# Altium footprint library ICS.PcbLib: 18 footprints (part 1 of 2)
Each footprint in its own frame and in the unit in brackets; x right, y up, seen from the top. Pads: shape width x height; smd on the part's side, far side on the other; paste and mask are expansions set on the pad; w line width, h text height; cw(c..) or ccw(c..) is an arc to the next point about the centre after c.
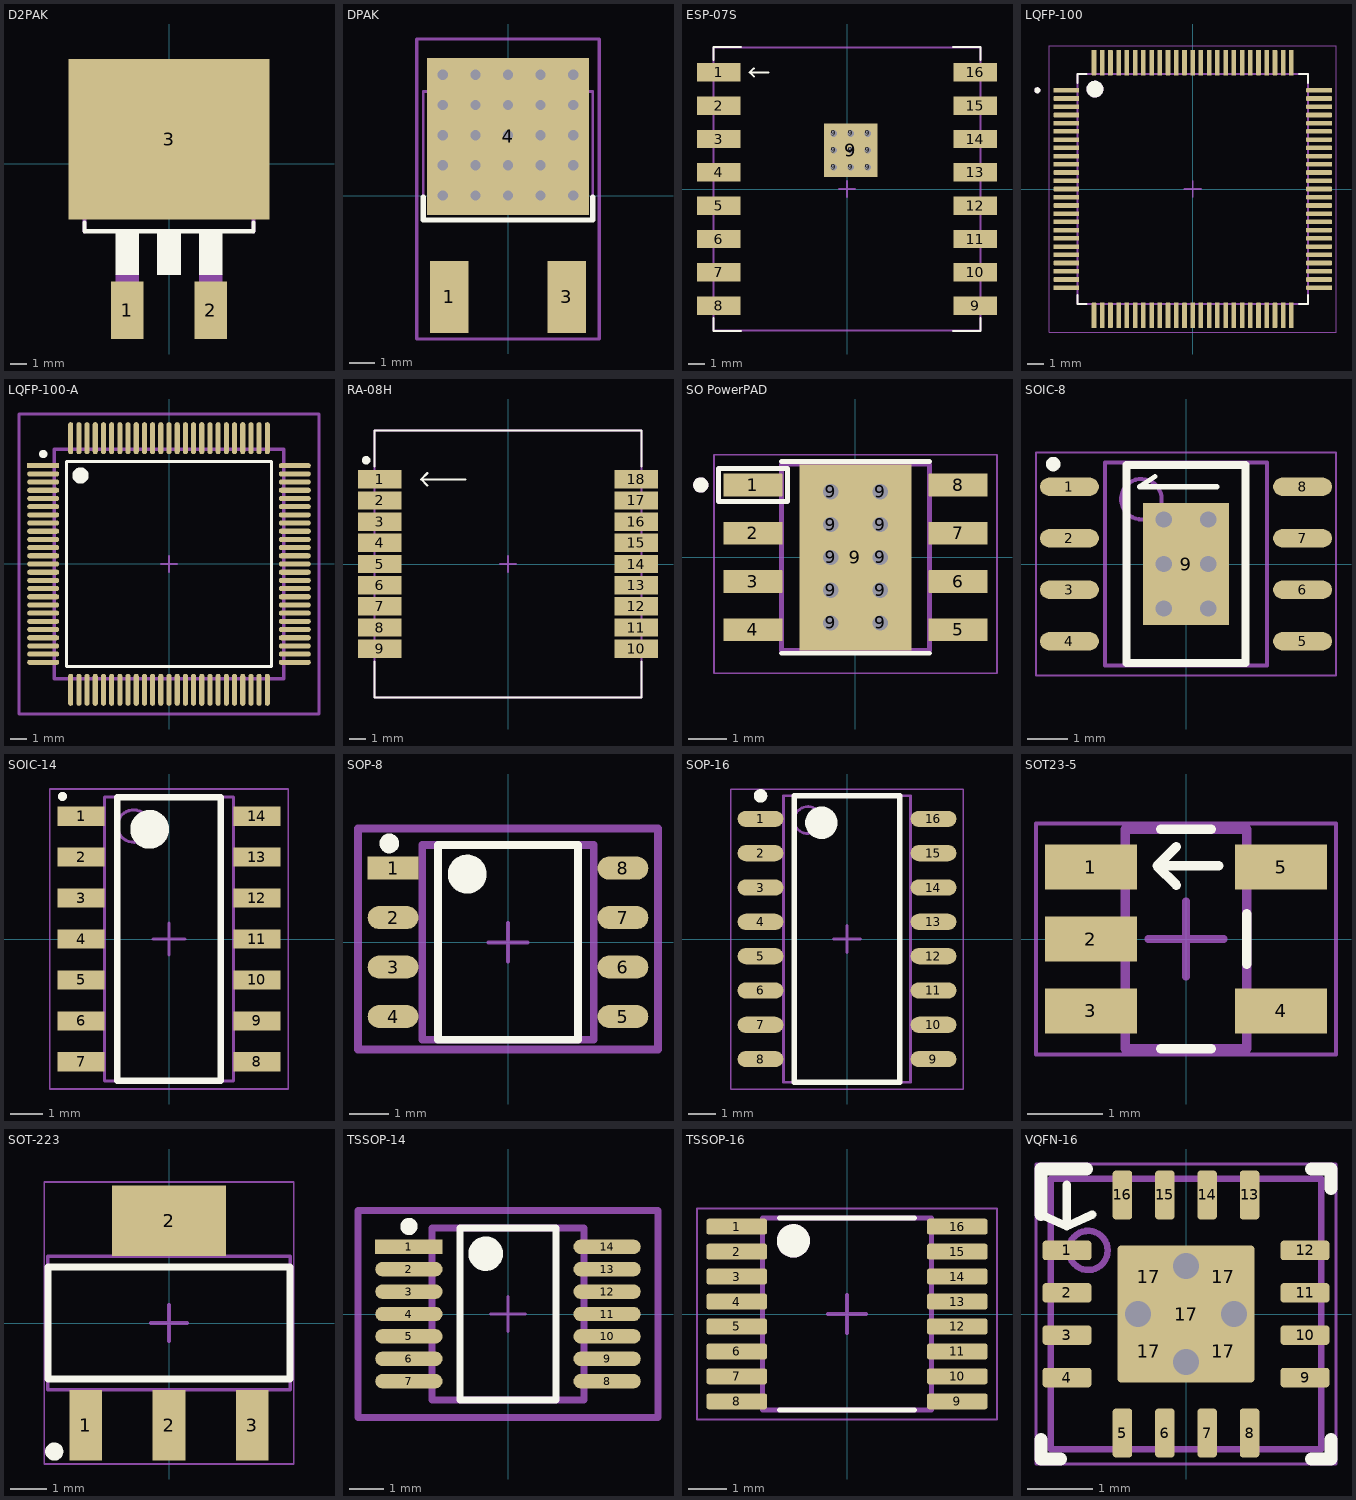
[diagram p0: the footprints below, top view; thin cyan lines are the x and y axes]

## D2PAK [mm]
pads (3):
  rect 2x3.5 smd: 1(-2.54,-8.89) 2(2.54,-8.89)
  rect 12.2x9.75 smd: 3(0,1.5)
Top Overlay:
  region: 0.711,-6.731 -0.711,-6.731 -0.711,-4.242 0.711,-4.242
  region: 3.251,-6.731 1.829,-6.731 1.829,-4.242 3.251,-4.242
  region: -1.829,-6.731 -3.251,-6.731 -3.251,-4.242 -1.829,-4.242
  lines w0.254: -5.131,-3.556 -5.131,-4.089 5.131,-4.089 5.131,-3.556
Top Courtyard:
  lines w0.1: -0.5,0 0.5,0 ; 0,-0.5 0,0.5
Mechanical 13:
  region: 3.251,-8.153 1.829,-8.153 1.829,-6.731 3.251,-6.731
  region: 3.099,-9.525 1.981,-9.525 1.981,-8.103 3.099,-8.103
  region: -1.829,-8.153 -3.251,-8.153 -3.251,-6.731 -1.829,-6.731
  region: -1.981,-9.525 -3.099,-9.525 -3.099,-8.103 -1.981,-8.103
  lines w0.254: -5.131,-4.089 -5.131,4.445 ; 5.131,-4.089 5.131,4.445 ; -5.131,4.445 5.131,4.445 ; -5.131,4.445 -5.131,4.699 -3.378,5.817 3.124,5.817 5.131,4.445
3D body "step_temp.STEP": height 4.6, standoff -0.23, extent -5.1,-9.617 5.1,5.807

## DPAK [mm]
pads (3):
  rect 1.5x2.8 smd: 1(-2.286,-3.95) 3(2.286,-3.95)
  rect 6.3x6.1 smd: 4(0,2.3)
via -1.27,4.699 diameter 0.6 hole 0.4
via 0,4.699 diameter 0.6 hole 0.4
via 1.27,4.699 diameter 0.6 hole 0.4
via 2.54,4.699 diameter 0.6 hole 0.4
via -2.54,4.699 diameter 0.6 hole 0.4
via 2.54,0 diameter 0.6 hole 0.4
via 1.27,0 diameter 0.6 hole 0.4
via -1.27,0 diameter 0.6 hole 0.4
via 2.54,1.175 diameter 0.6 hole 0.4
via 1.27,1.175 diameter 0.6 hole 0.4
via -1.27,1.175 diameter 0.6 hole 0.4
via 2.54,2.349 diameter 0.6 hole 0.4
via 1.27,2.349 diameter 0.6 hole 0.4
via -1.27,2.349 diameter 0.6 hole 0.4
via -2.54,2.349 diameter 0.6 hole 0.4
via 2.54,3.524 diameter 0.6 hole 0.4
via 1.27,3.524 diameter 0.6 hole 0.4
via -1.27,3.524 diameter 0.6 hole 0.4
via -2.54,3.524 diameter 0.6 hole 0.4
via 0,3.524 diameter 0.6 hole 0.4
via 0,2.349 diameter 0.6 hole 0.4
via 0,0 diameter 0.6 hole 0.4
via 0,1.175 diameter 0.6 hole 0.4
via -2.54,0 diameter 0.6 hole 0.4
via -2.54,1.175 diameter 0.6 hole 0.4
Top Overlay:
  lines w0.2: -3.3,-0.056 -3.3,-0.956 3.3,-0.956 3.3,-0.056
Top Courtyard:
  lines w0.1: -0.5,0 0.5,0 ; 0,-0.5 0,0.5
Top Assembly:
  lines w0.1: -3.3,-0.965 -3.3,4.05 3.3,4.05 3.3,-0.965 -3.3,-0.965
Mechanical 15:
  lines w0.127: -3.556,-5.588 3.556,-5.588 3.556,6.096 -3.556,6.096 -3.556,-5.588
3D body "DPAK228P972X240-3N.step": height 2.4, standoff 0, extent -3.3,-3.775 3.3,5.95

## ESP-07S [mm]
height 3.2
pads (26):
  rect 2.6x1.1 smd: 1(-7.7,7) 2(-7.7,5) 3(-7.7,3) 4(-7.7,1) 5(-7.7,-1) 6(-7.7,-3) 7(-7.7,-5) 8(-7.7,-7) 9(7.7,-7) 10(7.7,-5) 11(7.7,-3) 12(7.7,-1) 13(7.7,1) 14(7.7,3) 15(7.7,5) 16(7.7,7)
  round 0.6 hole 0.4: 9(-0.796,1.301) 9(-0.796,2.317) 9(-0.796,3.333) 9(0.22,1.301) 9(0.22,2.317) 9(0.22,3.333) 9(1.236,1.301) 9(1.236,2.317) 9(1.236,3.333)
  rect 3.2x3.2 smd: 9(0.22,2.317)
Top Overlay:
  lines w0.127: -8.001,-7.747 -8.001,-8.509 -6.35,-8.509 ; -8.001,7.747 -8.001,8.509 -6.35,8.509 ; -5.588,6.761 -5.842,7 ; -5.588,7.239 -5.842,7 ; -4.699,7 -5.842,7 ; 6.35,-8.509 8.001,-8.509 8.001,-7.747 ; 6.35,8.509 8.001,8.509 8.001,7.747
Top 3D Body:
  lines w0.127: -8,-8.5 -8,8.5 8,8.5 8,-8.5 -8,-8.5
Top Component Center:
  lines w0.1: -0.5,0 0.5,0 ; 0,-0.5 0,0.5
Mechanical 15:
  lines w0.127: -8,-8.5 8,-8.5 8,8.5 -8,8.5 -8,-8.5
3D body "esp-07s.SLDPRT": height 3.28, standoff 0, extent -8.001,-8.509 7.999,8.491

## LQFP-100 [mm]
pads (100):
  rrect25% 1.56x0.28 smd: 1(-7.68,6) 2(-7.68,5.5) 3(-7.68,5) 4(-7.68,4.5) 5(-7.68,4) 6(-7.68,3.5) 7(-7.68,3) 8(-7.68,2.5) 9(-7.68,2) 10(-7.68,1.5) 11(-7.68,1) 12(-7.68,0.5) 13(-7.68,0) 14(-7.68,-0.5) 15(-7.68,-1) 16(-7.68,-1.5) 17(-7.68,-2) 18(-7.68,-2.5) 19(-7.68,-3) 20(-7.68,-3.5) 21(-7.68,-4) 22(-7.68,-4.5) 23(-7.68,-5) 24(-7.68,-5.5) 25(-7.68,-6) 51(7.68,-6) 52(7.68,-5.5) 53(7.68,-5) 54(7.68,-4.5) 55(7.68,-4) 56(7.68,-3.5) 57(7.68,-3) 58(7.68,-2.5) 59(7.68,-2) 60(7.68,-1.5) 61(7.68,-1) 62(7.68,-0.5) 63(7.68,0) 64(7.68,0.5) 65(7.68,1) 66(7.68,1.5) 67(7.68,2) 68(7.68,2.5) 69(7.68,3) 70(7.68,3.5) 71(7.68,4) 72(7.68,4.5) 73(7.68,5) 74(7.68,5.5) 75(7.68,6)
  rrect25% 0.28x1.56 smd: 26(-6,-7.68) 27(-5.5,-7.68) 28(-5,-7.68) 29(-4.5,-7.68) 30(-4,-7.68) 31(-3.5,-7.68) 32(-3,-7.68) 33(-2.5,-7.68) 34(-2,-7.68) 35(-1.5,-7.68) 36(-1,-7.68) 37(-0.5,-7.68) 38(0,-7.68) 39(0.5,-7.68) 40(1,-7.68) 41(1.5,-7.68) 42(2,-7.68) 43(2.5,-7.68) 44(3,-7.68) 45(3.5,-7.68) 46(4,-7.68) 47(4.5,-7.68) 48(5,-7.68) 49(5.5,-7.68) 50(6,-7.68) 76(6,7.68) 77(5.5,7.68) 78(5,7.68) 79(4.5,7.68) 80(4,7.68) 81(3.5,7.68) 82(3,7.68) 83(2.5,7.68) 84(2,7.68) 85(1.5,7.68) 86(1,7.68) 87(0.5,7.68) 88(0,7.68) 89(-0.5,7.68) 90(-1,7.68) 91(-1.5,7.68) 92(-2,7.68) 93(-2.5,7.68) 94(-3,7.68) 95(-3.5,7.68) 96(-4,7.68) 97(-4.5,7.68) 98(-5,7.68) 99(-5.5,7.68) 100(-6,7.68)
Top Overlay:
  circle w0.508: c-5.942,6.071 r0.256
  circle w0.2: c-9.44,6 r0.085
  lines w0.127: -7,-6.46 -7,-7 -6.46,-7 ; -7,6.46 -7,7 -6.46,7 ; 6.46,-7 7,-7 7,-6.46 ; 6.46,7 7,7 7,6.46
Top Courtyard:
  lines w0.1: -0.5,0 0.5,0 ; 0,-0.5 0,0.5
Mechanical 13:
  circle w0.508: c-5.942,6.071 r0.256
  circle w0.2: c-9.44,6 r0.085
  lines w0.127: -7,-7 7,-7 7,7 -7,7 -7,-7
Mechanical 15:
  lines w0.05: -8.71,-8.71 8.71,-8.71 8.71,8.71 -8.71,8.71 -8.71,-8.71
3D body "STM32H743VIT6.STEP": height 1.56, standoff -0.04, extent -8,-8 8,8

## LQFP-100-A [mm]
pads (100):
  rect 1.955x0.312 smd paste+0 mask+0: 1(-7.675,6)
  rrect100% 1.955x0.312 smd paste+0 mask+0: 2(-7.675,5.5) 3(-7.675,5) 4(-7.675,4.5) 5(-7.675,4) 6(-7.675,3.5) 7(-7.675,3) 8(-7.675,2.5) 9(-7.675,2) 10(-7.675,1.5) 11(-7.675,1) 12(-7.675,0.5) 13(-7.675,0) 14(-7.675,-0.5) 15(-7.675,-1) 16(-7.675,-1.5) 17(-7.675,-2) 18(-7.675,-2.5) 19(-7.675,-3) 20(-7.675,-3.5) 21(-7.675,-4) 22(-7.675,-4.5) 23(-7.675,-5) 24(-7.675,-5.5) 25(-7.675,-6) 51(7.675,-6) 52(7.675,-5.5) 53(7.675,-5) 54(7.675,-4.5) 55(7.675,-4) 56(7.675,-3.5) 57(7.675,-3) 58(7.675,-2.5) 59(7.675,-2) 60(7.675,-1.5) 61(7.675,-1) 62(7.675,-0.5) 63(7.675,0) 64(7.675,0.5) 65(7.675,1) 66(7.675,1.5) 67(7.675,2) 68(7.675,2.5) 69(7.675,3) 70(7.675,3.5) 71(7.675,4) 72(7.675,4.5) 73(7.675,5) 74(7.675,5.5) 75(7.675,6)
  rrect100% 0.312x1.955 smd paste+0 mask+0: 26(-6,-7.675) 27(-5.5,-7.675) 28(-5,-7.675) 29(-4.5,-7.675) 30(-4,-7.675) 31(-3.5,-7.675) 32(-3,-7.675) 33(-2.5,-7.675) 34(-2,-7.675) 35(-1.5,-7.675) 36(-1,-7.675) 37(-0.5,-7.675) 38(0,-7.675) 39(0.5,-7.675) 40(1,-7.675) 41(1.5,-7.675) 42(2,-7.675) 43(2.5,-7.675) 44(3,-7.675) 45(3.5,-7.675) 46(4,-7.675) 47(4.5,-7.675) 48(5,-7.675) 49(5.5,-7.675) 50(6,-7.675) 76(6,7.675) 77(5.5,7.675) 78(5,7.675) 79(4.5,7.675) 80(4,7.675) 81(3.5,7.675) 82(3,7.675) 83(2.5,7.675) 84(2,7.675) 85(1.5,7.675) 86(1,7.675) 87(0.5,7.675) 88(0,7.675) 89(-0.5,7.675) 90(-1,7.675) 91(-1.5,7.675) 92(-2,7.675) 93(-2.5,7.675) 94(-3,7.675) 95(-3.5,7.675) 96(-4,7.675) 97(-4.5,7.675) 98(-5,7.675) 99(-5.5,7.675) 100(-6,7.675)
Top Overlay:
  circle w0.5: c-5.4,5.4 r0.25
  circle w0.25: c-7.675,6.71 r0.125
  lines w0.2: -6.25,-6.25 -6.25,6.25 6.25,6.25 6.25,-6.25 -6.25,-6.25
Top 3D Body:
  lines w0.2: -7,-7 -7,7 7,7 7,-7 -7,-7
Top Courtyard:
  lines w0.2: -9.153,-9.153 -9.153,9.153 9.153,9.153 9.153,-9.153 -9.153,-9.153
Top Component Center:
  lines w0.1: -0.5,0 0.5,0 ; 0,-0.5 0,0.5
Top Assembly:
  lines w0.2: -9.153,-9.153 -9.153,9.153 9.153,9.153 9.153,-9.153 -9.153,-9.153
  text ".Designator" at 0,-0.001 h1
3D body "IC_STMicroelectronics_STM32H743VIT6_eec.STEP": height 0.25, standoff 0, extent -9.153,-9.153 9.153,9.153

## RA-08H [mm]
pads (18):
  rect 2.6x1.1 smd mask+0.05: 1(-7.7,5.08) 2(-7.7,3.81) 3(-7.7,2.54) 4(-7.7,1.27) 5(-7.7,0) 6(-7.7,-1.27) 7(-7.7,-2.54) 8(-7.7,-3.81) 9(-7.7,-5.08) 10(7.7,-5.08) 11(7.7,-3.81) 12(7.7,-2.54) 13(7.7,-1.27) 14(7.7,0) 15(7.7,1.27) 16(7.7,2.54) 17(7.7,3.81) 18(7.7,5.08)
Top Overlay:
  circle w0.254: c-8.509,6.223 r0.127
  lines w0.127: -8.001,-5.842 -8.001,-8.001 8.001,-8.001 8.001,-5.842 ; -8.001,5.842 -8.001,8.001 8.001,8.001 8.001,5.842 ; -4.826,4.699 -5.207,5.08 ; -4.826,5.461 -5.207,5.08 ; -2.54,5.08 -5.207,5.08
Top 3D Body:
  lines w0.127: -8,-8 -8,8 8,8 8,-8 -8,-8
Top Component Center:
  lines w0.1: -0.5,0 0.5,0 ; 0,-0.5 0,0.5
Mechanical 15:
  lines w0.127: -8,-8 8,-8 8,8 -8,8 -8,-8
3D body: height 3.03, standoff 0, extent -8,-8 8,8

## SO PowerPAD [mm]
pads (19):
  rrect5% 1.55x0.6 smd mask+0: 1(-2.7,1.905) 2(-2.7,0.635) 3(-2.7,-0.635) 4(-2.7,-1.905) 5(2.7,-1.905) 6(2.7,-0.635) 7(2.7,0.635) 8(2.7,1.905)
  round 0.6 hole 0.4 paste+0: 9(-0.65,-1.726) 9(-0.65,-0.863) 9(-0.65,0) 9(-0.65,0.863) 9(-0.65,1.726) 9(0.65,-1.726) 9(0.65,-0.863) 9(0.65,0) 9(0.65,0.863) 9(0.65,1.726)
  rect 2.95x4.9 smd: 9(0,0)
Top Overlay:
  circle w0.2: c-4.07,1.905 r0.1
  lines w0.127: -1.95,-2.525 1.95,-2.525 ; -1.95,2.525 1.95,2.525 ; -3.607,1.473 -3.607,2.337 -1.791,2.337 -1.791,1.473 -3.607,1.473
Top Paste:
  region: 1.355,-1.7 -1.355,-1.7 -1.355,1.7 1.355,1.7
Top Solder:
  drawing of 9 lines, arcs and shapes, not listed
Top Courtyard:
  lines w0.1: -0.5,0 0.5,0 ; 0,-0.5 0,0.5
Mechanical 13:
  circle w0.2: c-4.07,1.905 r0.1
  lines w0.127: -1.95,-2.45 1.95,-2.45 1.95,2.45 -1.95,2.45 -1.95,-2.45
Mechanical 15:
  lines w0.05: -3.725,-3.048 3.725,-3.048 3.725,2.7 -3.725,2.7 -3.725,-3.048
3D body "TPS5430DDA.STEP": height 1.7, standoff 0, extent -3,-2.45 3,2.45

## SOIC-8 [mm] "SOIC, 8-Leads, Body 4.90x3.90mm, Pitch 1.27mm, Thermal Pad 3.00x2.13mm, IPC Medium Density"
height 1.7
pads (9):
  oval 1.45x0.45 smd: 1(-2.875,1.905) 2(-2.875,0.635) 3(-2.875,-0.635) 4(-2.875,-1.905) 5(2.875,-1.905) 6(2.875,-0.635) 7(2.875,0.635) 8(2.875,1.905)
  rect 2.13x3 smd: 9(0,0)
via -0.55,1.1 diameter 0.6 hole 0.4
via 0.55,1.1 diameter 0.6 hole 0.4
via -0.55,0 diameter 0.6 hole 0.4
via 0.55,0 diameter 0.6 hole 0.4
via -0.55,-1.1 diameter 0.6 hole 0.4
via 0.55,-1.1 diameter 0.6 hole 0.4
Top Overlay:
  circle w0.254: c-3.277,2.464 r0.051
  lines w0.127: -0.762,2.159 -1.143,1.905 0.762,1.905
  lines w0.2: -1.47,-2.445 -1.47,2.445 1.47,2.445 1.47,-2.445 -1.47,-2.445
Top Courtyard:
  lines w0.05: -3.7,-2.75 -3.7,2.75 3.7,2.75 3.7,-2.75 -3.7,-2.75
  lines w0.1: -0.5,0 0.5,0 ; 0,-0.5 0,0.5
Top Assembly:
  circle w0.1: c-1.1,1.6 r0.5
  lines w0.1: -2,-2.5 -2,2.5 2,2.5 2,-2.5 -2,-2.5
3D body "SOIC127P600X170_HS-9N.step": height 1.7, standoff 0, extent -3,-2.5 3,2.5

## SOIC-14 [mm] "SOIC, 14-Leads, Body 8.65x3.90mm, Pitch 1.27mm, IPC Medium Density"
height 1.75
pads (14):
  rect 1.45x0.6 smd: 1(-2.725,3.81) 2(-2.725,2.54) 3(-2.725,1.27) 4(-2.725,0) 5(-2.725,-1.27) 6(-2.725,-2.54) 7(-2.725,-3.81) 8(2.725,-3.81) 9(2.725,-2.54) 10(2.725,-1.27) 11(2.725,0) 12(2.725,1.27) 13(2.725,2.54) 14(2.725,3.81)
Top Overlay:
  circle w0.25: c-3.302,4.42 r0.014
  circle w0.6: c-0.6,3.4 r0.3
  lines w0.2: -1.6,-4.4 -1.6,4.4 1.6,4.4 1.6,-4.4 -1.6,-4.4
Top Courtyard:
  lines w0.05: -3.7,-4.65 -3.7,4.65 3.7,4.65 3.7,-4.65 -3.7,-4.65
  lines w0.1: -0.5,0 0.5,0 ; 0,-0.5 0,0.5
Top Assembly:
  circle w0.1: c-1.1,3.5 r0.5
  lines w0.1: -2,-4.4 -2,4.4 2,4.4 2,-4.4 -2,-4.4
3D body "SOIC127P600X175-14N.step": height 1.75, standoff 0, extent -3,-4.4 3,4.4

## SOP-8 [mm]
pads (8):
  rect 1.304x0.592 smd paste+0 mask+0: 1(-2.95,1.905)
  rrect100% 1.304x0.592 smd paste+0 mask+0: 2(-2.95,0.635) 3(-2.95,-0.635) 4(-2.95,-1.905) 5(2.95,-1.905) 6(2.95,-0.635) 7(2.95,0.635) 8(2.95,1.905)
Top Overlay:
  circle w0.5: c-1.048,1.75 r0.25
  circle w0.254: c-3.048,2.54 r0.127
  lines w0.2: -1.798,-2.5 -1.798,2.5 1.798,2.5 1.798,-2.5 -1.798,-2.5
Top 3D Body:
  lines w0.2: -2.2,-2.5 -2.2,2.5 2.2,2.5 2.2,-2.5 -2.2,-2.5
Top Courtyard:
  lines w0.2: -3.852,-2.75 -3.852,2.921 3.852,2.921 3.852,-2.75 -3.852,-2.75
Top Component Center:
  lines w0.1: -0.5,0 0.5,0 ; 0,-0.5 0,0.5
Top Assembly:
  lines w0.2: -3.852,-2.75 -3.852,2.921 3.852,2.921 3.852,-2.75 -3.852,-2.75
  text ".Designator" at 0,0.188 h1
3D body "IC_Rohm_BD6231F-E2_eec.STEP": height 0.25, standoff 0, extent -3.852,-2.75 3.852,2.75

## SOP-16 [mm] "SOP, 16-Leads, Body 10.30x4.40mm, Pitch 1.27mm, IPC Medium Density"
height 2.1
pads (16):
  oval 1.7x0.6 smd: 1(-3.2,4.445) 2(-3.2,3.175) 3(-3.2,1.905) 4(-3.2,0.635) 5(-3.2,-0.635) 6(-3.2,-1.905) 7(-3.2,-3.175) 8(-3.2,-4.445) 9(3.2,-4.445) 10(3.2,-3.175) 11(3.2,-1.905) 12(3.2,-0.635) 13(3.2,0.635) 14(3.2,1.905) 15(3.2,3.175) 16(3.2,4.445)
Top Overlay:
  circle w0.25: c-3.2,5.295 r0.125
  circle w0.6: c-0.95,4.3 r0.3
  lines w0.2: -1.95,-5.3 -1.95,5.3 1.95,5.3 1.95,-5.3 -1.95,-5.3
Top Courtyard:
  lines w0.05: -4.3,-5.55 -4.3,5.55 4.3,5.55 4.3,-5.55 -4.3,-5.55
  lines w0.1: -0.5,0 0.5,0 ; 0,-0.5 0,0.5
Top Assembly:
  circle w0.1: c-1.45,4.4 r0.5
  lines w0.1: -2.35,-5.3 -2.35,5.3 2.35,5.3 2.35,-5.3 -2.35,-5.3
3D body "SOP127P700X210-16N.step": height 2.1, standoff 0, extent -3.5,-5.3 3.5,5.3

## SOT23-5 [mm]
pads (5):
  rect 1.21x0.59 smd: 1(-1.255,0.95) 2(-1.255,0) 3(-1.255,-0.95) 4(1.255,-0.95) 5(1.255,0.95)
Top Overlay:
  lines w0.127: -0.33,-1.45 0.33,-1.45 ; -0.33,1.45 0.33,1.45 ; -0.127,0.711 -0.381,0.965 ; -0.127,1.219 -0.381,0.965 ; 0.432,0.965 -0.381,0.965 ; 0.8,-0.335 0.8,0.335
Top Courtyard:
  lines w0.1: -0.5,0 0.5,0 ; 0,-0.5 0,0.5
Mechanical 13:
  lines w0.127: -0.8,-1.45 -0.8,1.45 0.8,1.45 0.8,-1.45 -0.8,-1.45
Mechanical 15:
  lines w0.05: -1.981,-1.524 1.981,-1.524 1.981,1.524 -1.981,1.524 -1.981,-1.524
3D body "OPA333AIDBVT.STEP": height 1.45, standoff 0, extent -1.4,-1.45 1.4,1.45

## SOT-223 [mm] "SOT223, 4-Leads, Body 6.50x7.00mm (avg), Pitch 2.30mm, IPC High Density"
height 1.8
pads (4):
  rect 0.9x1.95 smd: 1(-2.3,-2.825) 2(0,-2.825) 3(2.3,-2.825)
  rect 3.15x1.95 smd: 2(0,2.825)
Top Overlay:
  circle w0.25: c-3.175,-3.556 r0.125
  lines w0.2: -3.35,-1.55 -3.35,1.55 3.35,1.55 3.35,-1.55 -3.35,-1.55
Top Courtyard:
  lines w0.05: -3.45,-3.9 -3.45,3.9 3.45,3.9 3.45,-3.9 -3.45,-3.9
  lines w0.1: -0.5,0 0.5,0 ; 0,-0.5 0,0.5
Top Assembly:
  lines w0.1: -3.35,-1.85 -3.35,1.85 3.35,1.85 3.35,-1.85 -3.35,-1.85
3D body "SOT230P700X180-4L.step": height 1.8, standoff 0, extent -3.35,-3.5 3.35,3.5

## TSSOP-14 [mm]
pads (14):
  rect 1.955x0.421 smd paste+0 mask+0.05: 1(-2.875,1.95)
  rrect100% 1.955x0.421 smd paste+0 mask+0.05: 2(-2.875,1.3) 3(-2.875,0.65) 4(-2.875,0) 5(-2.875,-0.65) 6(-2.875,-1.3) 7(-2.875,-1.95) 8(2.875,-1.95) 9(2.875,-1.3) 10(2.875,-0.65) 11(2.875,0) 12(2.875,0.65) 13(2.875,1.3) 14(2.875,1.95)
Top Overlay:
  circle w0.5: c-0.648,1.75 r0.25
  circle w0.25: c-2.875,2.54 r0.125
  lines w0.2: -1.398,-2.5 1.398,-2.5 1.398,2.5 -1.398,2.5 -1.398,-2.5
Top 3D Body:
  lines w0.2: -2.2,-2.5 2.2,-2.5 2.2,2.5 -2.2,2.5 -2.2,-2.5
Top Courtyard:
  lines w0.2: -4.353,-3 4.353,-3 4.353,3 -4.353,3 -4.353,-3
Top Component Center:
  lines w0.1: -0.5,0 0.5,0 ; 0,-0.5 0,0.5
Top Assembly:
  lines w0.2: -4.353,-3 4.353,-3 4.353,3 -4.353,3 -4.353,-3
  text ".Designator" at 0,0.188 h1
3D body "IC_Texas_Instruments_BQ34110PWR_eec.STEP": height 0.25, standoff 0, extent -4.353,-3 4.353,3

## TSSOP-16 [mm]
pads (16):
  rrect25% 1.57x0.41 smd: 1(-2.87,2.275) 2(-2.87,1.625) 3(-2.87,0.975) 4(-2.87,0.325) 5(-2.87,-0.325) 6(-2.87,-0.975) 7(-2.87,-1.625) 8(-2.87,-2.275) 9(2.87,-2.275) 10(2.87,-1.625) 11(2.87,-0.975) 12(2.87,-0.325) 13(2.87,0.325) 14(2.87,0.975) 15(2.87,1.625) 16(2.87,2.275)
Top Overlay:
  circle w0.508: c-1.397,1.905 r0.178
  lines w0.127: -1.765,-2.5 1.765,-2.5 ; -1.765,2.5 1.765,2.5
Top Courtyard:
  lines w0.1: -0.5,0 0.5,0 ; 0,-0.5 0,0.5
Mechanical 13:
  circle w0.508: c-1.397,1.905 r0.178
  lines w0.127: -2.2,-2.5 -2.2,2.5 2.2,2.5 2.2,-2.5 -2.2,-2.5
Mechanical 15:
  lines w0.05: -3.905,-2.75 -3.905,2.75 3.905,2.75 3.905,-2.75 -3.905,-2.75
3D body "TSSOP16.STEP": height 1.17, standoff -0.03, extent -3.2,-2.5 3.2,2.5

## VQFN-16 [mm] "QFN, 16-Leads, Body 4x4mm, Pitch 0.65mm, Thermal Pad 2.16x2.16mm, TI Recommended"
height 1
pads (21):
  rrect33% 0.75x0.3 smd: 1(-1.825,0.975) 2(-1.825,0.325) 3(-1.825,-0.325) 4(-1.825,-0.975) 9(1.825,-0.975) 10(1.825,-0.325) 11(1.825,0.325) 12(1.825,0.975)
  rrect33% 0.3x0.75 smd: 5(-0.975,-1.825) 6(-0.325,-1.825) 7(0.325,-1.825) 8(0.975,-1.825) 13(0.975,1.825) 14(0.325,1.825) 15(-0.325,1.825) 16(-0.975,1.825)
  rrect11% 0.939x0.939 on Top Paste: 17(-0.57,-0.57) 17(-0.57,0.57) 17(0.57,-0.57) 17(0.57,0.57)
  rrect5% 2.1x2.1 smd paste-1.08: 17(0,0)
via 0.737,0 diameter 0.6 hole 0.4
via -0.737,0 diameter 0.6 hole 0.4
via 0,0.737 diameter 0.6 hole 0.4
via 0,-0.737 diameter 0.6 hole 0.4
Top Overlay:
  lines w0.127: -2.225,1.525 -1.829,1.346 ; -1.829,1.981 -1.829,1.346 ; -1.433,1.525 -1.829,1.346
  lines w0.2: -2.225,-1.925 -2.225,-2.225 -1.925,-2.225 ; -2.225,1.525 -2.225,2.225 -1.525,2.225 ; 1.925,-2.225 2.225,-2.225 2.225,-1.925 ; 1.925,2.225 2.225,2.225 2.225,1.925
Top Courtyard:
  lines w0.1: -0.5,0 0.5,0 ; 0,-0.5 0,0.5
Mechanical 13:
  circle w0.1: c-1.5,0.975 r0.3
  lines w0.1: -2.075,-2.075 2.075,-2.075 2.075,2.075 -2.075,2.075 -2.075,-2.075
Mechanical 15:
  lines w0.05: -2.3,-2.3 -2.3,2.3 2.3,2.3 2.3,-2.3 -2.3,-2.3
  lines w0.1: -0.5,0 0.5,0 ; 0,-0.5 0,0.5
3D body: height 1.01, standoff 0.5, extent -1.799,0.676 -1.201,1.274
3D body: height 1, standoff 0, extent -2.075,-2.075 2.075,2.075